# Altium schematic symbol library Boards.SchLib: 1 symbol
Pins are listed as number, name and electrical type; pins without a type are passive.

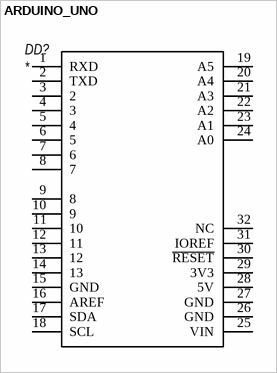
[diagram p0: symbol ARDUINO_UNO]

## ARDUINO_UNO
designator DD?
pins: 1 RXD, 2 TXD, 3 2, 4 3, 5 4, 6 5, 7 6, 8 7, 9 8, 10 9, 11 10, 12 11, 13 12, 14 13, 15 GND, 16 AREF, 17 SDA, 18 SCL, 19 A5, 20 A4, 21 A3, 22 A2, 23 A1, 24 A0, 25 VIN, 26 GND, 27 GND, 28 5V, 29 3V3, 30 ~{RESET}, 31 IOREF, 32 NC